# Altium schematic symbol library gpa_nxp.SchLib: 1 symbol
Pins are listed as number, name and electrical type; pins without a type are passive.

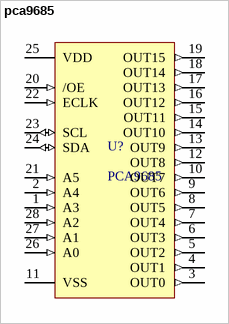
[diagram p0: symbol pca9685]

## pca9685
designator U?, comment PCA9685
footprint NXP_QFN65P600X600X100_HS-29M (QFN, 28-Leads, Body 6.00x6.00mm, Pitch 0.65mm, Thermal Pad 4.10x4.10mm, IPC Low Density)
pins: 1 A3 (in), 2 A4 (in), 3 OUT0 (out), 4 OUT1 (out), 5 OUT2 (out), 6 OUT3 (out), 7 OUT4 (out), 8 OUT5 (out), 9 OUT6 (out), 10 OUT7 (out), 11 VSS (power), 12 OUT8 (out), 13 OUT9 (out), 14 OUT10 (out), 15 OUT11 (out), 16 OUT12 (out), 17 OUT13 (out), 18 OUT14 (out), 19 OUT15 (out), 20 /OE (in), 21 A5 (in), 22 ECLK (in), 23 SCL (io), 24 SDA (io), 25 VDD (power), 26 A0 (in), 27 A1 (in), 28 A2 (in)